# Altium schematic symbol library BQ29700DSET.SchLib: 1 symbol
Pins are listed as number, name and electrical type; pins without a type are passive.

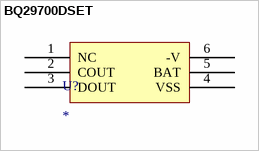
[diagram p0: symbol BQ29700DSET]

## BQ29700DSET
designator U?
pins: 1 NC, 2 COUT, 3 DOUT, 4 VSS, 5 BAT, 6 -V